# EAGLE library part L76-M33_L76-M33 (library Cosmic Pi V2)
GPS Receiver 1575.42MHz 2.5V/3.3V 18-Pin
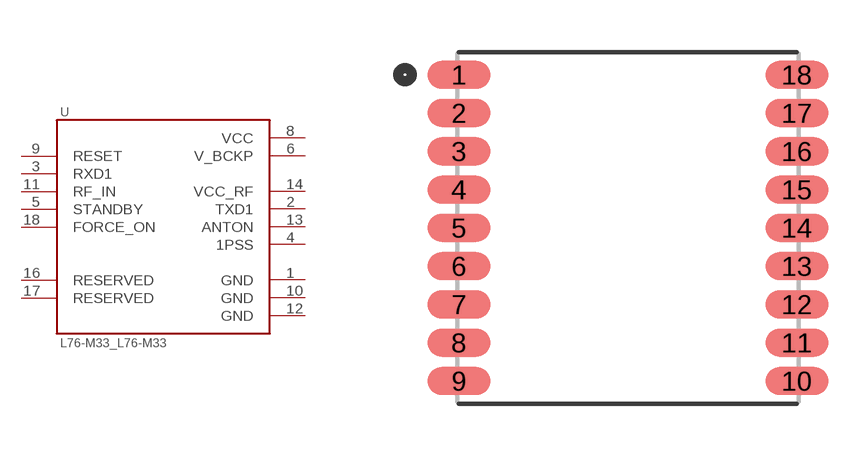
[diagram p0: symbol with the pads of L76-M33_CAPCAV110P970X1010X250-18N; footprint L76-M33_CAPCAV110P970X1010X250-18N]

Designator prefix U

## L76-M33_L76-M33  [L76-M33_CAPCAV110P970X1010X250-18N]
1  GND  pwr
2  TXD1  out
3  RXD1
4  1PSS  out
5  STANDBY
6  V_BCKP  pwr
8  VCC  pwr
9  RESET
10  GND  pwr
11  RF_IN
12  GND  pwr
13  ANTON  out
14  VCC_RF  out
16  RESERVED  pas
17  RESERVED  pas
18  FORCE_ON

## Footprint L76-M33_CAPCAV110P970X1010X250-18N (pad centres in mm)
smd 1.8 x 0.8: 1 -4.85,4.4; 2 -4.85,3.3; 3 -4.85,2.2; 4 -4.85,1.1; 5 -4.85,0; 6 -4.85,-1.1; 7 -4.85,-2.2; 8 -4.85,-3.3; 9 -4.85,-4.4; 10 4.85,-4.4; 11 4.85,-3.3; 12 4.85,-2.2; 13 4.85,-1.1; 14 4.85,0; 15 4.85,1.1; 16 4.85,2.2; 17 4.85,3.3; 18 4.85,4.4